# Altium integrated library Maxim Analog Filters.IntLib: 555 symbols (part 6 of 26)
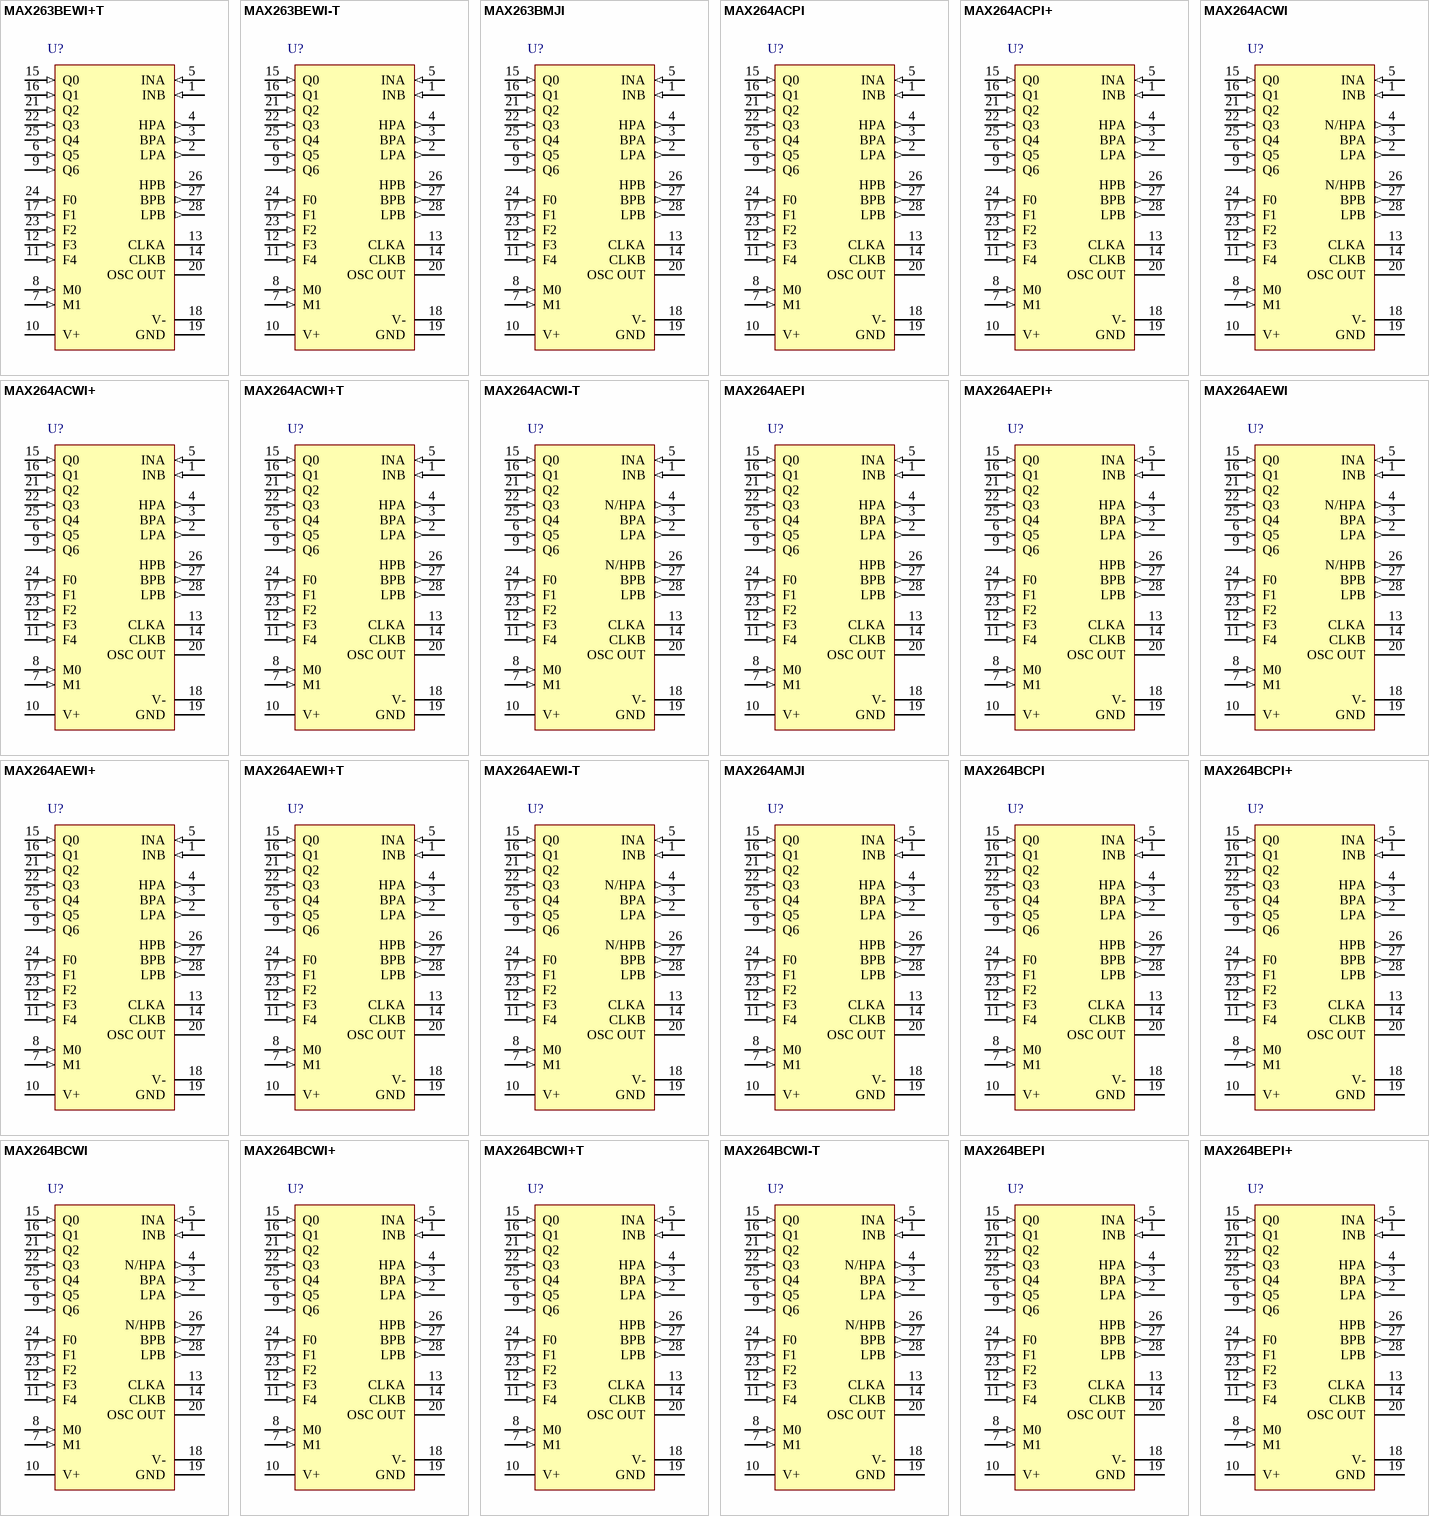
[diagram p22: symbols MAX263BEWI+T to MAX264BEPI+]

## MAX264BCWI+T
designator U?
Switched Capacitor Filter, Pin Strap Programmable, 0 to 70 degC, 28-Pin SOIC (W28+5), Pb-Free, Tape and Reel; Generic Part Number: MAX264; PartNumber: MAX264BCWI+T; Filter Sections: 2; Filter Type: Universal; DatasheetVersion: Rev. 4; PackageVersion: Rev. F, 10/2012; PackageReference: W28+5; PackageDescription: 28-Pin Small-Outline IC, Wide (0.3in) (W28+5), Body 17.9 x 7.5 mm, Pitch 1.27 mm; Supplier 1: Digi-Key; Supplier Part Number 1: MAX264BCWI+T-ND; Supplier 2: Mouser; Supplier Part Number 2: 700-MAX264BCWIT; Filter Characteristic: Programmable; Filter Class: Switched Cap; Order Per Filter Section: 2; Packing: Tape and Reel; Program Method: Pin Strap; RoHS: Pb-Free; Mounting Technology: Surface Mount; Code_JEDEC: MS013; ComponentLink1Description: Manufacturer URL; ComponentLink1URL: http://www.maximintegrated.com/; ComponentLink2Description: Datasheet; ComponentLink2URL: http://datasheets.maximintegrated.com/en/ds/MAX264; ComponentLink3Description: Package Specification; ComponentLink3URL: http://pdfserv.maximintegrated.com/package_dwgs/21-0042.PDF
footprint MAXM-W28+5_N (SOIC, 28-Leads, Body 17.9x7.5mm, Pitch 1.27mm, IPC Medium Density)
footprint MAXM-W28+5_L (SOIC, 28-Leads, Body 17.9x7.5mm, Pitch 1.27mm, IPC High Density)
footprint MAXM-W28+5_M (SOIC, 28-Leads, Body 17.9x7.5mm, Pitch 1.27mm, IPC Low Density)
pins: 1 INB (in) "Filter inputs", 2 LPA (out) "Lowpass outputs", 3 BPA (out) "Bandpass outputs", 4 HPA (out) "Highpass/Notch/Allpass outputs", 5 INA (in) "Filter inputs", 6 Q5 (in) "Q programming inputs", 7 M1 (in) "Mode select inputs", 8 M0 (in) "Mode select inputs", 9 Q6 (in) "Q programming inputs", 10 V+ (power) "Positive supply voltage", 11 F4 (in) "Clock/center frequency ratio (fclk/fo) programming inputs", 12 F3 (in) "Clock/center frequency ratio (fclk/fo) programming inputs", 13 CLKA "Input to the oscillator and clock input to section A.This clock is internally divided by 2.", 14 CLKB "Clock input to filter B. This clock is internally divided by 2.", 15 Q0 (in) "Q programming inputs", 16 Q1 (in) "Q programming inputs", 17 F1 (in) "Clock/center frequency ratio (fclk/fo) programming inputs", 18 V- (power) "Negative supply voltage", 19 GND (power) "Analog Ground.Connect to the system ground for dual supply operation or mid-supply for single supply operation. Gnd should be well bypassed in single supply applications.", 20 OSC OUT "Connects to crystal for self clocked operation", 21 Q2 (in) "Q programming inputs", 22 Q3 (in) "Q programming inputs", 23 F2 (in) "Clock/center frequency ratio (fclk/fo) programming inputs", 24 F0 (in) "Clock/center frequency ratio (fclk/fo) programming inputs", 25 Q4 (in) "Q programming inputs", 26 HPB (out) "Highpass/Notch/Allpass outputs", 27 BPB (out) "Bandpass outputs", 28 LPB (out) "Lowpass outputs"

## MAX264BCWI-T
designator U?
Switched Capacitor Filter, Pin Strap Programmable, 0 to 70 degC, 28-Pin SOIC (W28-5), Tape and Reel; Generic Part Number: MAX264; PartNumber: MAX264BCWI-T; Filter Sections: 2; Filter Type: Universal; DatasheetVersion: Rev. 4; PackageVersion: Rev. F, 10/2012; PackageReference: W28-5; PackageDescription: 28-Pin Small-Outline IC, Wide (0.3in) (W28-5), Body 17.9 x 7.5 mm, Pitch 1.27 mm; Supplier 1: Mouser; Supplier Part Number 1: N/A; Filter Characteristic: Programmable; Filter Class: Switched Cap; Order Per Filter Section: 2; Packing: Tape and Reel; Program Method: Pin Strap; Mounting Technology: Surface Mount; Code_JEDEC: MS013; ComponentLink1Description: Manufacturer URL; ComponentLink1URL: http://www.maximintegrated.com/; ComponentLink2Description: Datasheet; ComponentLink2URL: http://datasheets.maximintegrated.com/en/ds/MAX264; ComponentLink3Description: Package Specification; ComponentLink3URL: http://pdfserv.maximintegrated.com/package_dwgs/21-0042.PDF
footprint MAXM-W28-5_N (SOIC, 28-Leads, Body 17.9x7.5mm, Pitch 1.27mm, IPC Medium Density)
footprint MAXM-W28-5_L (SOIC, 28-Leads, Body 17.9x7.5mm, Pitch 1.27mm, IPC High Density)
footprint MAXM-W28-5_M (SOIC, 28-Leads, Body 17.9x7.5mm, Pitch 1.27mm, IPC Low Density)
pins: 1 INB (in) "Filter input", 2 LPA (out) "Lowpass output", 3 BPA (out) "Bandpass output", 4 N/HPA (out) "Highpass/Notch/Allpass output", 5 INA (in) "Filter input", 6 Q5 (in) "Q programming input", 7 M1 (in) "Mode select input", 8 M0 (in) "Mode select input", 9 Q6 (in) "Q programming input", 10 V+ (power) "Posotive supply voltage", 11 F4 (in) "Clock/center frequency ratio (fClk/f0) programming input", 12 F3 (in) "Clock/center frequency ratio (fClk/f0) programming input", 13 CLKA "Input to the oscillator and clock input to section A. This clock is internally divided by 2.", 14 CLKB "Clock input to filter B. This clock is internally divided by 2.", 15 Q0 (in) "Q programming input", 16 Q1 (in) "Q programming input", 17 F1 (in) "Clock/center frequency ratio (fClk/f0) programming input", 18 V- (power) "Negative supply voltage", 19 GND (power) "Analog Ground. Connect to the system ground for dual supply operation or mid-supply for single supply operation. GND should be well bypassed in single supply applications.", 20 OSC OUT "Connects to crystal for self clocked operation", 21 Q2 (in) "Q programming input", 22 Q3 (in) "Q programming input", 23 F2 (in) "Clock/center frequency ratio (fClk/f0) programming input", 24 F0 (in) "Clock/center frequency ratio (fClk/f0) programming input", 25 Q4 (in) "Q programming input", 26 N/HPB (out) "Highpass/Notch/Allpass output", 27 BPB (out) "Bandpass output", 28 LPB (out) "Lowpass output"

## MAX264BEPI
designator U?
Switched Capacitor Filter, Pin Strap Programmable, -40 to 85 degC, 28-Pin DIP (P28-5); Generic Part Number: MAX264; PartNumber: MAX264BEPI; Filter Sections: 2; Filter Type: Universal; DatasheetVersion: Rev. 4; PackageVersion: Rev. D, 04/2011; PackageReference: P28-5; PackageDescription: 28-Pin Plastic Dual-In-Line, Wide (0.6in) (P28-5), Body 36.83 x 13.975 mm, Pitch 2.54 mm; Supplier 1: Mouser; Supplier Part Number 1: N/A; Filter Characteristic: Programmable; Filter Class: Switched Cap; Order Per Filter Section: 2; Program Method: Pin Strap; Mounting Technology: Through Hole; Code_JEDEC: MS011; ComponentLink1Description: Manufacturer URL; ComponentLink1URL: http://www.maximintegrated.com/; ComponentLink2Description: Datasheet; ComponentLink2URL: http://datasheets.maximintegrated.com/en/ds/MAX264; ComponentLink3Description: Package Specification; ComponentLink3URL: http://pdfserv.maximintegrated.com/package_dwgs/21-0044.PDF
footprint MAXM-P28-5 (DIP, 28-Leads, Body 36.83x13.975mm, Pitch 2.54mm)
pins: 1 INB (in) "Filter inputs", 2 LPA (out) "Lowpass outputs", 3 BPA (out) "Bandpass outputs", 4 HPA (out) "Highpass/Notch/Allpass outputs", 5 INA (in) "Filter inputs", 6 Q5 (in) "Q programming inputs", 7 M1 (in) "Mode select inputs", 8 M0 (in) "Mode select inputs", 9 Q6 (in) "Q programming inputs", 10 V+ (power) "Positive supply voltage", 11 F4 (in) "Clock/center frequency ratio (fclk/fo) programming inputs", 12 F3 (in) "Clock/center frequency ratio (fclk/fo) programming inputs", 13 CLKA "Input to the oscillator and clock input to section A.This clock is internally divided by 2.", 14 CLKB "Clock input to filter B. This clock is internally divided by 2.", 15 Q0 (in) "Q programming inputs", 16 Q1 (in) "Q programming inputs", 17 F1 (in) "Clock/center frequency ratio (fclk/fo) programming inputs", 18 V- (power) "Negative supply voltage", 19 GND (power) "Analog Ground.Connect to the system ground for dual supply operation or mid-supply for single supply operation. Gnd should be well bypassed in single supply applications.", 20 OSC OUT "Connects to crystal for self clocked operation", 21 Q2 (in) "Q programming inputs", 22 Q3 (in) "Q programming inputs", 23 F2 (in) "Clock/center frequency ratio (fclk/fo) programming inputs", 24 F0 (in) "Clock/center frequency ratio (fclk/fo) programming inputs", 25 Q4 (in) "Q programming inputs", 26 HPB (out) "Highpass/Notch/Allpass outputs", 27 BPB (out) "Bandpass outputs", 28 LPB (out) "Lowpass outputs"

## MAX264BEPI+
designator U?
Switched Capacitor Filter, Pin Strap Programmable, -40 to 85 degC, 28-Pin DIP (P28+5), Pb-Free; Generic Part Number: MAX264; PartNumber: MAX264BEPI+; Filter Sections: 2; Filter Type: Universal; DatasheetVersion: Rev. 4; PackageVersion: Rev. D, 04/2011; PackageReference: P28+5; PackageDescription: 28-Pin Plastic Dual-In-Line, Wide (0.6in) (P28+5), Body 36.83 x 13.975 mm, Pitch 2.54 mm; Supplier 1: Digi-Key; Supplier Part Number 1: MAX264BEPI+-ND; Supplier 2: Mouser; Supplier Part Number 2: 700-MAX264BEPI; Filter Characteristic: Programmable; Filter Class: Switched Cap; Order Per Filter Section: 2; Program Method: Pin Strap; RoHS: Pb-Free; Mounting Technology: Through Hole; Code_JEDEC: MSO11; ComponentLink1Description: Manufacturer URL; ComponentLink1URL: http://www.maximintegrated.com/; ComponentLink2Description: Datasheet; ComponentLink2URL: http://datasheets.maximintegrated.com/en/ds/MAX264; ComponentLink3Description: Package Specification; ComponentLink3URL: http://pdfserv.maximintegrated.com/package_dwgs/21-0044.PDF
footprint MAXM-P28+5 (DIP, 28-Leads, Body 36.83x13.975mm, Pitch 2.54mm)
pins: 1 INB (in) "Filter inputs", 2 LPA (out) "Lowpass outputs", 3 BPA (out) "Bandpass outputs", 4 HPA (out) "Highpass/Notch/Allpass outputs", 5 INA (in) "Filter inputs", 6 Q5 (in) "Q programming inputs", 7 M1 (in) "Mode select inputs", 8 M0 (in) "Mode select inputs", 9 Q6 (in) "Q programming inputs", 10 V+ (power) "Positive supply voltage", 11 F4 (in) "Clock/center frequency ratio (fclk/fo) programming inputs", 12 F3 (in) "Clock/center frequency ratio (fclk/fo) programming inputs", 13 CLKA "Input to the oscillator and clock input to section A.This clock is internally divided by 2.", 14 CLKB "Clock input to filter B. This clock is internally divided by 2.", 15 Q0 (in) "Q programming inputs", 16 Q1 (in) "Q programming inputs", 17 F1 (in) "Clock/center frequency ratio (fclk/fo) programming inputs", 18 V- (power) "Negative supply voltage", 19 GND (power) "Analog Ground.Connect to the system ground for dual supply operation or mid-supply for single supply operation. Gnd should be well bypassed in single supply applications.", 20 OSC OUT "Connects to crystal for self clocked operation", 21 Q2 (in) "Q programming inputs", 22 Q3 (in) "Q programming inputs", 23 F2 (in) "Clock/center frequency ratio (fclk/fo) programming inputs", 24 F0 (in) "Clock/center frequency ratio (fclk/fo) programming inputs", 25 Q4 (in) "Q programming inputs", 26 HPB (out) "Highpass/Notch/Allpass outputs", 27 BPB (out) "Bandpass outputs", 28 LPB (out) "Lowpass outputs"

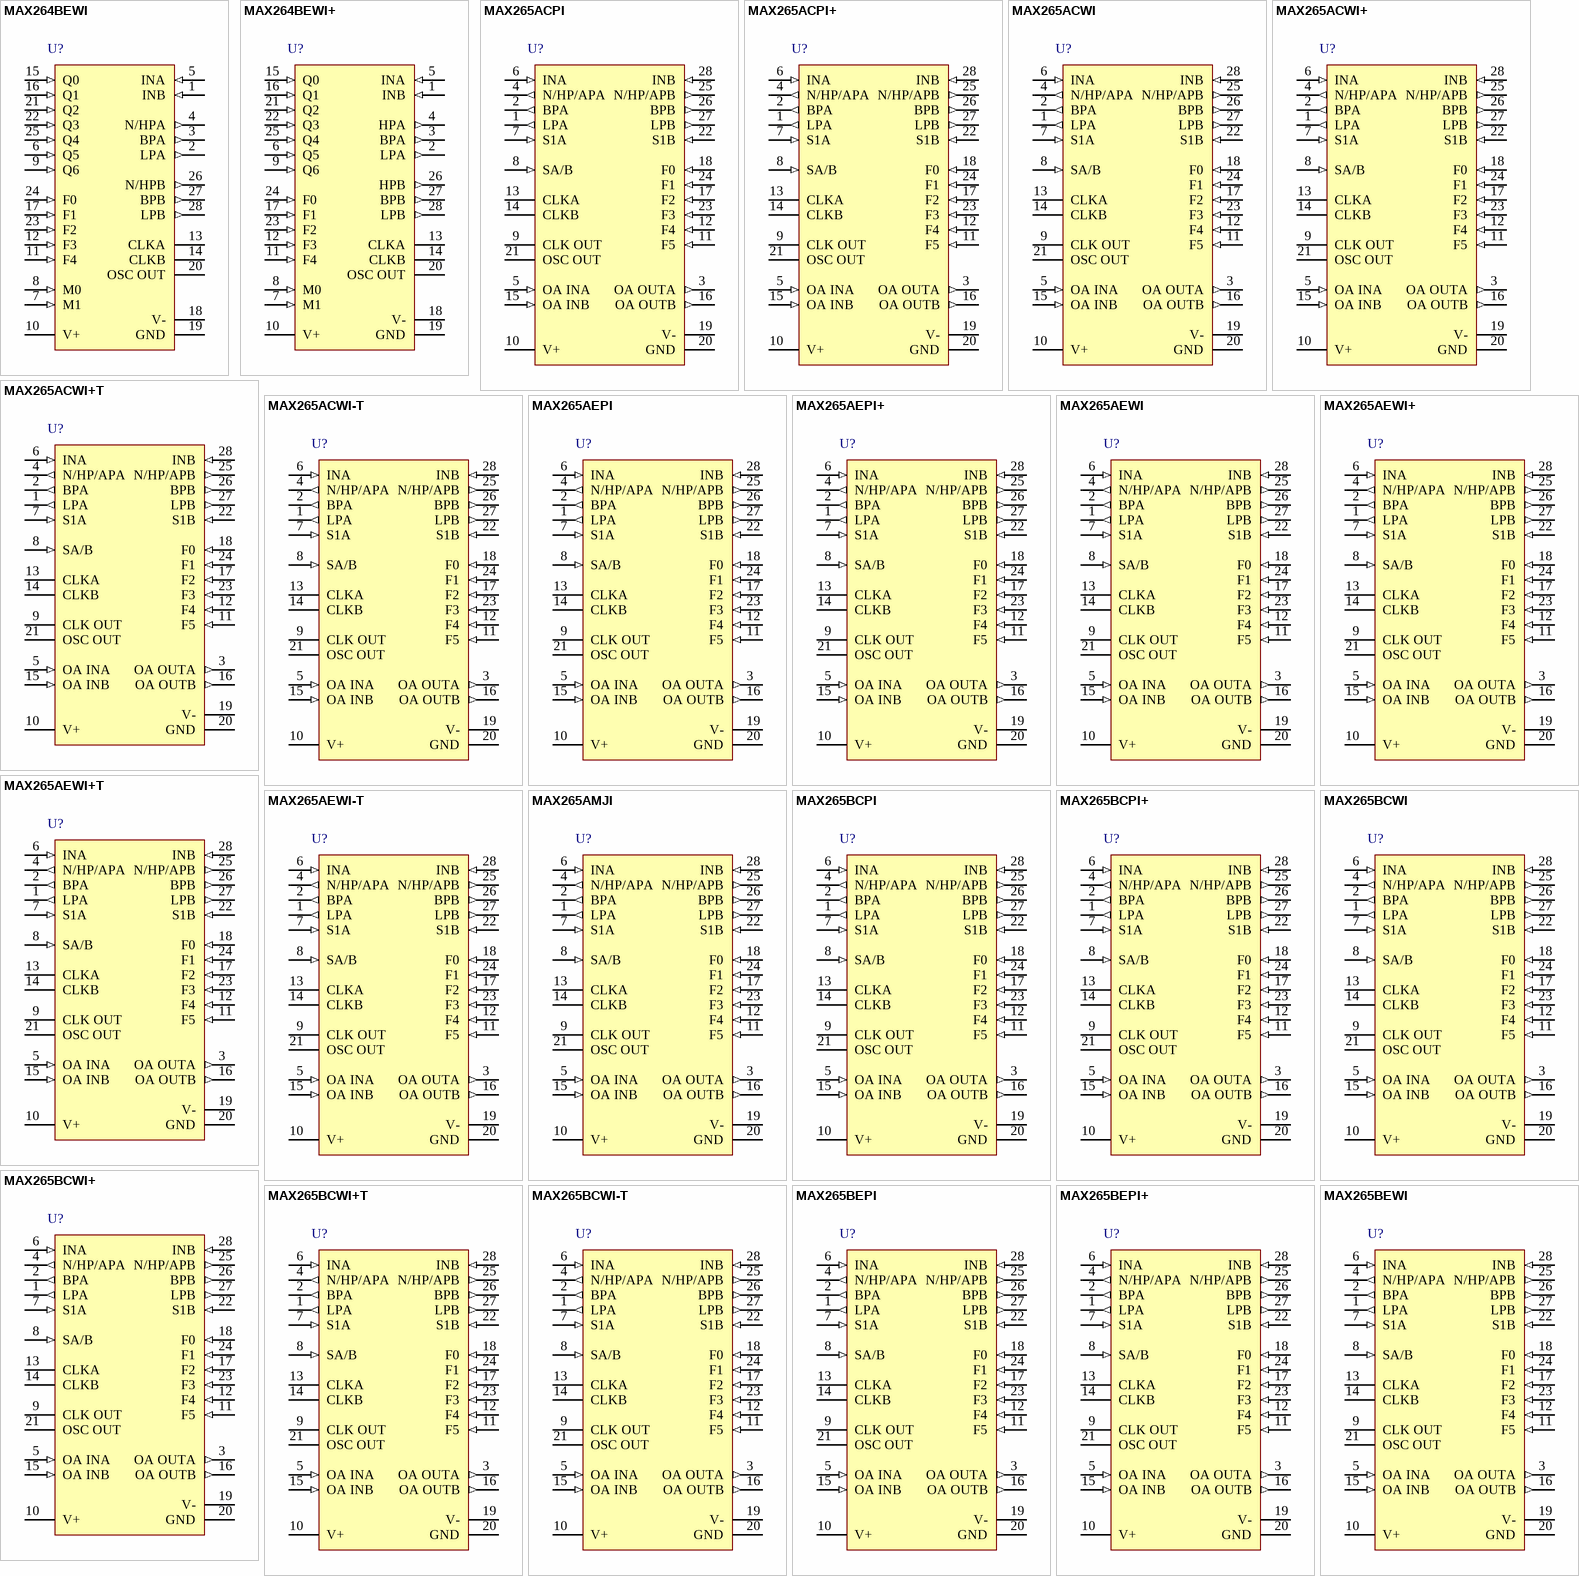
[diagram p4: symbols MAX264BEWI to MAX265BEWI]

## MAX264BEWI
designator U?
Switched Capacitor Filter, Pin Strap Programmable, -40 to 85 degC, 28-Pin SOIC (W28-5); Generic Part Number: MAX264; PartNumber: MAX264BEWI; Filter Sections: 2; Filter Type: Universal; DatasheetVersion: Rev. 4; PackageVersion: Rev. F, 10/2012; PackageReference: W28-5; PackageDescription: 28-Pin Small-Outline IC, Wide (0.3in) (W28-5), Body 17.9 x 7.5 mm, Pitch 1.27 mm; Supplier 1: Mouser; Supplier Part Number 1: N/A; Filter Characteristic: Programmable; Filter Class: Switched Cap; Order Per Filter Section: 2; Program Method: Pin Strap; Mounting Technology: Surface Mount; Code_JEDEC: MS013; ComponentLink1Description: Manufacturer URL; ComponentLink1URL: http://www.maximintegrated.com/; ComponentLink2Description: Datasheet; ComponentLink2URL: http://datasheets.maximintegrated.com/en/ds/MAX264; ComponentLink3Description: Package Specification; ComponentLink3URL: http://pdfserv.maximintegrated.com/package_dwgs/21-0042.PDF
footprint MAXM-W28-5_N (SOIC, 28-Leads, Body 17.9x7.5mm, Pitch 1.27mm, IPC Medium Density)
footprint MAXM-W28-5_L (SOIC, 28-Leads, Body 17.9x7.5mm, Pitch 1.27mm, IPC High Density)
footprint MAXM-W28-5_M (SOIC, 28-Leads, Body 17.9x7.5mm, Pitch 1.27mm, IPC Low Density)
pins: 1 INB (in) "Filter input", 2 LPA (out) "Lowpass output", 3 BPA (out) "Bandpass output", 4 N/HPA (out) "Highpass/Notch/Allpass output", 5 INA (in) "Filter input", 6 Q5 (in) "Q programming input", 7 M1 (in) "Mode select input", 8 M0 (in) "Mode select input", 9 Q6 (in) "Q programming input", 10 V+ (power) "Posotive supply voltage", 11 F4 (in) "Clock/center frequency ratio (fClk/f0) programming input", 12 F3 (in) "Clock/center frequency ratio (fClk/f0) programming input", 13 CLKA "Input to the oscillator and clock input to section A. This clock is internally divided by 2.", 14 CLKB "Clock input to filter B. This clock is internally divided by 2.", 15 Q0 (in) "Q programming input", 16 Q1 (in) "Q programming input", 17 F1 (in) "Clock/center frequency ratio (fClk/f0) programming input", 18 V- (power) "Negative supply voltage", 19 GND (power) "Analog Ground. Connect to the system ground for dual supply operation or mid-supply for single supply operation. GND should be well bypassed in single supply applications.", 20 OSC OUT "Connects to crystal for self clocked operation", 21 Q2 (in) "Q programming input", 22 Q3 (in) "Q programming input", 23 F2 (in) "Clock/center frequency ratio (fClk/f0) programming input", 24 F0 (in) "Clock/center frequency ratio (fClk/f0) programming input", 25 Q4 (in) "Q programming input", 26 N/HPB (out) "Highpass/Notch/Allpass output", 27 BPB (out) "Bandpass output", 28 LPB (out) "Lowpass output"

## MAX264BEWI+
designator U?
Switched Capacitor Filter, Pin Strap Programmable, -40 to 85 degC, 28-Pin SOIC (W28+5), Pb-Free; Generic Part Number: MAX264; PartNumber: MAX264BEWI+; Filter Sections: 2; Filter Type: Universal; DatasheetVersion: Rev. 4; PackageVersion: Rev. F, 10/2012; PackageReference: W28+5; PackageDescription: 28-Pin Small-Outline IC, Wide (0.3in) (W28+5), Body 17.9 x 7.5 mm, Pitch 1.27 mm; Supplier 1: Digi-Key; Supplier Part Number 1: MAX264BEWI+-ND; Supplier 2: Mouser; Supplier Part Number 2: 700-MAX264BEWI; Filter Characteristic: Programmable; Filter Class: Switched Cap; Order Per Filter Section: 2; Program Method: Pin Strap; RoHS: Pb-Free; Mounting Technology: Surface Mount; Code_JEDEC: MS013; ComponentLink1Description: Manufacturer URL; ComponentLink1URL: http://www.maximintegrated.com/; ComponentLink2Description: Datasheet; ComponentLink2URL: http://datasheets.maximintegrated.com/en/ds/MAX264; ComponentLink3Description: Package Specification; ComponentLink3URL: http://pdfserv.maximintegrated.com/package_dwgs/21-0042.PDF
footprint MAXM-W28+5_N (SOIC, 28-Leads, Body 17.9x7.5mm, Pitch 1.27mm, IPC Medium Density)
footprint MAXM-W28+5_L (SOIC, 28-Leads, Body 17.9x7.5mm, Pitch 1.27mm, IPC High Density)
footprint MAXM-W28+5_M (SOIC, 28-Leads, Body 17.9x7.5mm, Pitch 1.27mm, IPC Low Density)
pins: 1 INB (in) "Filter inputs", 2 LPA (out) "Lowpass outputs", 3 BPA (out) "Bandpass outputs", 4 HPA (out) "Highpass/Notch/Allpass outputs", 5 INA (in) "Filter inputs", 6 Q5 (in) "Q programming inputs", 7 M1 (in) "Mode select inputs", 8 M0 (in) "Mode select inputs", 9 Q6 (in) "Q programming inputs", 10 V+ (power) "Positive supply voltage", 11 F4 (in) "Clock/center frequency ratio (fclk/fo) programming inputs", 12 F3 (in) "Clock/center frequency ratio (fclk/fo) programming inputs", 13 CLKA "Input to the oscillator and clock input to section A.This clock is internally divided by 2.", 14 CLKB "Clock input to filter B. This clock is internally divided by 2.", 15 Q0 (in) "Q programming inputs", 16 Q1 (in) "Q programming inputs", 17 F1 (in) "Clock/center frequency ratio (fclk/fo) programming inputs", 18 V- (power) "Negative supply voltage", 19 GND (power) "Analog Ground.Connect to the system ground for dual supply operation or mid-supply for single supply operation. Gnd should be well bypassed in single supply applications.", 20 OSC OUT "Connects to crystal for self clocked operation", 21 Q2 (in) "Q programming inputs", 22 Q3 (in) "Q programming inputs", 23 F2 (in) "Clock/center frequency ratio (fclk/fo) programming inputs", 24 F0 (in) "Clock/center frequency ratio (fclk/fo) programming inputs", 25 Q4 (in) "Q programming inputs", 26 HPB (out) "Highpass/Notch/Allpass outputs", 27 BPB (out) "Bandpass outputs", 28 LPB (out) "Lowpass outputs"

## MAX265ACPI
designator U?
Switched Capacitor Filter, Pin Strap, Resistor Programmable, 0 to 70 degC, 28-Pin DIP (P28-5); Generic Part Number: MAX265; PartNumber: MAX265ACPI; Filter Sections: 2; Filter Type: Universal; DatasheetVersion: Rev. 0; PackageVersion: Rev. D, 04/2011; PackageReference: P28-5; PackageDescription: 28-Pin Plastic Dual-In-Line, Wide (0.6in) (P28-5), Body 36.83 x 13.975 mm, Pitch 2.54 mm; Supplier 1: Mouser; Supplier Part Number 1: N/A; Filter Characteristic: Programmable; Filter Class: Switched Cap; Order Per Filter Section: 2; Program Method: Pin Strap, Resistor; Mounting Technology: Through Hole; Code_JEDEC: MS011; ComponentLink1Description: Manufacturer URL; ComponentLink1URL: http://www.maximintegrated.com/; ComponentLink2Description: Datasheet; ComponentLink2URL: http://datasheets.maximintegrated.com/en/ds/MAX265-MAX266.pdf; ComponentLink3Description: Package Specification; ComponentLink3URL: http://pdfserv.maximintegrated.com/package_dwgs/21-0044.PDF
footprint MAXM-P28-5 (DIP, 28-Leads, Body 36.83x13.975mm, Pitch 2.54mm)
pins: 1 LPA (out) "Lowpass outputs", 2 BPA (out) "Bandpass outputs", 3 OA OUTA (out) "Output of op amps A", 4 N/HP/APA (out), 5 OA INA (in) "Inverting input of op amps A", 6 INA (in) "Filter input", 7 S1A (in) "Auxiliary input to summing node in A filter. It receives feedback signals in various filter modes.", 8 SA/B (in) "When SA/B is high, one filter summing node is tied to the LP output. When SA/B is low, the summing node is grounded. See Mode diagrams (Figures 5-20) for SA/B connections.", 9 CLK OUT "Clock Output for crystal and R-C oscillator operation.", 10 V+ (power) "Positive supply voltage", 11 F5 (in) "Programming input for fCLK/f0 ratio", 12 F4 (in) "Programming input for fCLK/f0 ratio", 13 CLKA "Input to the oscillator and clock input to section A. This clock is internally divided by 2.", 14 CLKB "Clock input to filter B. This clock is internally divided by 2.", 15 OA INB (in) "Inverting input of op amps B", 16 OA OUTB (out) "Output of op amps B", 17 F2 (in) "Programming input for fCLK/f0 ratio", 18 F0 (in) "Programming input for fCLK/f0 ratio", 19 V- (power) "Negative supply voltage", 20 GND (power) "Analog Ground. Connect to the system ground for +/- supplies or to mid-supply for single supply operation. GND should be well bypassed in single supply applications.", 21 OSC OUT "Connects to crystal or R-C for self-clocked operation.", 22 S1B (in) "Auxiliary input to summing node in B filter. It receives feedback signals in various filter modes.", 23 F3 (in) "Programming input for fCLK/f0 ratio", 24 F1 (in) "Programming input for fCLK/f0 ratio", 25 N/HP/APB (out), 26 BPB (out) "Bandpass outputs", 27 LPB (out) "Lowpass outputs", 28 INB (in) "Filter input"

## MAX265ACPI+
designator U?
Switched Capacitor Filter, Pin Strap, Resistor Programmable, 0 to 70 degC, 28-Pin DIP (P28+5), Pb-Free; Generic Part Number: MAX265; PartNumber: MAX265ACPI+; Filter Sections: 2; Filter Type: Universal; DatasheetVersion: Rev. 0; PackageVersion: Rev. D, 04/2011; PackageReference: P28+5; PackageDescription: 28-Pin Plastic Dual-In-Line, Wide (0.6in) (P28+5), Body 36.83 x 13.975 mm, Pitch 2.54 mm; Supplier 1: Mouser; Supplier Part Number 1: N/A; Filter Characteristic: Programmable; Filter Class: Switched Cap; Order Per Filter Section: 2; Program Method: Pin Strap, Resistor; RoHS: Pb-Free; Mounting Technology: Through Hole; Code_JEDEC: MSO11; ComponentLink1Description: Manufacturer URL; ComponentLink1URL: http://www.maximintegrated.com/; ComponentLink2Description: Datasheet; ComponentLink2URL: http://datasheets.maximintegrated.com/en/ds/MAX265-MAX266.pdf; ComponentLink3Description: Package Specification; ComponentLink3URL: http://pdfserv.maximintegrated.com/package_dwgs/21-0044.PDF
footprint MAXM-P28+5 (DIP, 28-Leads, Body 36.83x13.975mm, Pitch 2.54mm)
pins: 1 LPA (out) "Lowpass outputs", 2 BPA (out) "Bandpass outputs", 3 OA OUTA (out) "Output of op amps A", 4 N/HP/APA (out), 5 OA INA (in) "Inverting input of op amps A", 6 INA (in) "Filter input", 7 S1A (in) "Auxiliary input to summing node in A filter. It receives feedback signals in various filter modes.", 8 SA/B (in) "When SA/B is high, one filter summing node is tied to the LP output. When SA/B is low, the summing node is grounded. See Mode diagrams (Figures 5-20) for SA/B connections.", 9 CLK OUT "Clock Output for crystal and R-C oscillator operation.", 10 V+ (power) "Positive supply voltage", 11 F5 (in) "Programming input for fCLK/f0 ratio", 12 F4 (in) "Programming input for fCLK/f0 ratio", 13 CLKA "Input to the oscillator and clock input to section A. This clock is internally divided by 2.", 14 CLKB "Clock input to filter B. This clock is internally divided by 2.", 15 OA INB (in) "Inverting input of op amps B", 16 OA OUTB (out) "Output of op amps B", 17 F2 (in) "Programming input for fCLK/f0 ratio", 18 F0 (in) "Programming input for fCLK/f0 ratio", 19 V- (power) "Negative supply voltage", 20 GND (power) "Analog Ground. Connect to the system ground for +/- supplies or to mid-supply for single supply operation. GND should be well bypassed in single supply applications.", 21 OSC OUT "Connects to crystal or R-C for self-clocked operation.", 22 S1B (in) "Auxiliary input to summing node in B filter. It receives feedback signals in various filter modes.", 23 F3 (in) "Programming input for fCLK/f0 ratio", 24 F1 (in) "Programming input for fCLK/f0 ratio", 25 N/HP/APB (out), 26 BPB (out) "Bandpass outputs", 27 LPB (out) "Lowpass outputs", 28 INB (in) "Filter input"

## MAX265ACWI
designator U?
Switched Capacitor Filter, Pin Strap, Resistor Programmable, 0 to 70 degC, 28-Pin SOIC (W28-5); Generic Part Number: MAX265; PartNumber: MAX265ACWI; Filter Sections: 2; Filter Type: Universal; DatasheetVersion: Rev. 0; PackageVersion: Rev. F, 10/2012; PackageReference: W28-5; PackageDescription: 28-Pin Small-Outline IC, Wide (0.3in) (W28-5), Body 17.9 x 7.5 mm, Pitch 1.27 mm; Supplier 1: Mouser; Supplier Part Number 1: N/A; Filter Characteristic: Programmable; Filter Class: Switched Cap; Order Per Filter Section: 2; Program Method: Pin Strap, Resistor; Mounting Technology: Surface Mount; Code_JEDEC: MS013; ComponentLink1Description: Manufacturer URL; ComponentLink1URL: http://www.maximintegrated.com/; ComponentLink2Description: Datasheet; ComponentLink2URL: http://datasheets.maximintegrated.com/en/ds/MAX265-MAX266.pdf; ComponentLink3Description: Package Specification; ComponentLink3URL: http://pdfserv.maximintegrated.com/package_dwgs/21-0042.PDF
footprint MAXM-W28-5_N (SOIC, 28-Leads, Body 17.9x7.5mm, Pitch 1.27mm, IPC Medium Density)
footprint MAXM-W28-5_L (SOIC, 28-Leads, Body 17.9x7.5mm, Pitch 1.27mm, IPC High Density)
footprint MAXM-W28-5_M (SOIC, 28-Leads, Body 17.9x7.5mm, Pitch 1.27mm, IPC Low Density)
pins: 1 LPA (out) "Lowpass outputs", 2 BPA (out) "Bandpass outputs", 3 OA OUTA (out) "Output of op amps A", 4 N/HP/APA (out), 5 OA INA (in) "Inverting input of op amps A", 6 INA (in) "Filter input", 7 S1A (in) "Auxiliary input to summing node in A filter. It receives feedback signals in various filter modes.", 8 SA/B (in) "When SA/B is high, one filter summing node is tied to the LP output. When SA/B is low, the summing node is grounded. See Mode diagrams (Figures 5-20) for SA/B connections.", 9 CLK OUT "Clock Output for crystal and R-C oscillator operation.", 10 V+ (power) "Positive supply voltage", 11 F5 (in) "Programming input for fCLK/f0 ratio", 12 F4 (in) "Programming input for fCLK/f0 ratio", 13 CLKA "Input to the oscillator and clock input to section A. This clock is internally divided by 2.", 14 CLKB "Clock input to filter B. This clock is internally divided by 2.", 15 OA INB (in) "Inverting input of op amps B", 16 OA OUTB (out) "Output of op amps B", 17 F2 (in) "Programming input for fCLK/f0 ratio", 18 F0 (in) "Programming input for fCLK/f0 ratio", 19 V- (power) "Negative supply voltage", 20 GND (power) "Analog Ground. Connect to the system ground for +/- supplies or to mid-supply for single supply operation. GND should be well bypassed in single supply applications.", 21 OSC OUT "Connects to crystal or R-C for self-clocked operation.", 22 S1B (in) "Auxiliary input to summing node in B filter. It receives feedback signals in various filter modes.", 23 F3 (in) "Programming input for fCLK/f0 ratio", 24 F1 (in) "Programming input for fCLK/f0 ratio", 25 N/HP/APB (out), 26 BPB (out) "Bandpass outputs", 27 LPB (out) "Lowpass outputs", 28 INB (in) "Filter input"

## MAX265ACWI+
designator U?
Switched Capacitor Filter, Pin Strap, Resistor Programmable, 0 to 70 degC, 28-Pin SOIC (W28+5), Pb-Free; Generic Part Number: MAX265; PartNumber: MAX265ACWI+; Filter Sections: 2; Filter Type: Universal; DatasheetVersion: Rev. 0; PackageVersion: Rev. F, 10/2012; PackageReference: W28+5; PackageDescription: 28-Pin Small-Outline IC, Wide (0.3in) (W28+5), Body 17.9 x 7.5 mm, Pitch 1.27 mm; Supplier 1: Mouser; Supplier Part Number 1: N/A; Filter Characteristic: Programmable; Filter Class: Switched Cap; Order Per Filter Section: 2; Program Method: Pin Strap, Resistor; RoHS: Pb-Free; Mounting Technology: Surface Mount; Code_JEDEC: MS013; ComponentLink1Description: Manufacturer URL; ComponentLink1URL: http://www.maximintegrated.com/; ComponentLink2Description: Datasheet; ComponentLink2URL: http://datasheets.maximintegrated.com/en/ds/MAX265-MAX266.pdf; ComponentLink3Description: Package Specification; ComponentLink3URL: http://pdfserv.maximintegrated.com/package_dwgs/21-0042.PDF
footprint MAXM-W28+5_N (SOIC, 28-Leads, Body 17.9x7.5mm, Pitch 1.27mm, IPC Medium Density)
footprint MAXM-W28+5_L (SOIC, 28-Leads, Body 17.9x7.5mm, Pitch 1.27mm, IPC High Density)
footprint MAXM-W28+5_M (SOIC, 28-Leads, Body 17.9x7.5mm, Pitch 1.27mm, IPC Low Density)
pins: 1 LPA (out) "Lowpass outputs", 2 BPA (out) "Bandpass outputs", 3 OA OUTA (out) "Output of op amps A", 4 N/HP/APA (out), 5 OA INA (in) "Inverting input of op amps A", 6 INA (in) "Filter input", 7 S1A (in) "Auxiliary input to summing node in A filter. It receives feedback signals in various filter modes.", 8 SA/B (in) "When SA/B is high, one filter summing node is tied to the LP output. When SA/B is low, the summing node is grounded. See Mode diagrams (Figures 5-20) for SA/B connections.", 9 CLK OUT "Clock Output for crystal and R-C oscillator operation.", 10 V+ (power) "Positive supply voltage", 11 F5 (in) "Programming input for fCLK/f0 ratio", 12 F4 (in) "Programming input for fCLK/f0 ratio", 13 CLKA "Input to the oscillator and clock input to section A. This clock is internally divided by 2.", 14 CLKB "Clock input to filter B. This clock is internally divided by 2.", 15 OA INB (in) "Inverting input of op amps B", 16 OA OUTB (out) "Output of op amps B", 17 F2 (in) "Programming input for fCLK/f0 ratio", 18 F0 (in) "Programming input for fCLK/f0 ratio", 19 V- (power) "Negative supply voltage", 20 GND (power) "Analog Ground. Connect to the system ground for +/- supplies or to mid-supply for single supply operation. GND should be well bypassed in single supply applications.", 21 OSC OUT "Connects to crystal or R-C for self-clocked operation.", 22 S1B (in) "Auxiliary input to summing node in B filter. It receives feedback signals in various filter modes.", 23 F3 (in) "Programming input for fCLK/f0 ratio", 24 F1 (in) "Programming input for fCLK/f0 ratio", 25 N/HP/APB (out), 26 BPB (out) "Bandpass outputs", 27 LPB (out) "Lowpass outputs", 28 INB (in) "Filter input"

## MAX265ACWI+T
designator U?
Switched Capacitor Filter, Pin Strap, Resistor Programmable, 0 to 70 degC, 28-Pin SOIC (W28+5), Pb-Free, Tape and Reel; Generic Part Number: MAX265; PartNumber: MAX265ACWI+T; Filter Sections: 2; Filter Type: Universal; DatasheetVersion: Rev. 0; PackageVersion: Rev. F, 10/2012; PackageReference: W28+5; PackageDescription: 28-Pin Small-Outline IC, Wide (0.3in) (W28+5), Body 17.9 x 7.5 mm, Pitch 1.27 mm; Supplier 1: Mouser; Supplier Part Number 1: N/A; Filter Characteristic: Programmable; Filter Class: Switched Cap; Order Per Filter Section: 2; Packing: Tape and Reel; Program Method: Pin Strap, Resistor; RoHS: Pb-Free; Mounting Technology: Surface Mount; Code_JEDEC: MS013; ComponentLink1Description: Manufacturer URL; ComponentLink1URL: http://www.maximintegrated.com/; ComponentLink2Description: Datasheet; ComponentLink2URL: http://datasheets.maximintegrated.com/en/ds/MAX265-MAX266.pdf; ComponentLink3Description: Package Specification; ComponentLink3URL: http://pdfserv.maximintegrated.com/package_dwgs/21-0042.PDF
footprint MAXM-W28+5_N (SOIC, 28-Leads, Body 17.9x7.5mm, Pitch 1.27mm, IPC Medium Density)
footprint MAXM-W28+5_L (SOIC, 28-Leads, Body 17.9x7.5mm, Pitch 1.27mm, IPC High Density)
footprint MAXM-W28+5_M (SOIC, 28-Leads, Body 17.9x7.5mm, Pitch 1.27mm, IPC Low Density)
pins: 1 LPA (out) "Lowpass outputs", 2 BPA (out) "Bandpass outputs", 3 OA OUTA (out) "Output of op amps A", 4 N/HP/APA (out), 5 OA INA (in) "Inverting input of op amps A", 6 INA (in) "Filter input", 7 S1A (in) "Auxiliary input to summing node in A filter. It receives feedback signals in various filter modes.", 8 SA/B (in) "When SA/B is high, one filter summing node is tied to the LP output. When SA/B is low, the summing node is grounded. See Mode diagrams (Figures 5-20) for SA/B connections.", 9 CLK OUT "Clock Output for crystal and R-C oscillator operation.", 10 V+ (power) "Positive supply voltage", 11 F5 (in) "Programming input for fCLK/f0 ratio", 12 F4 (in) "Programming input for fCLK/f0 ratio", 13 CLKA "Input to the oscillator and clock input to section A. This clock is internally divided by 2.", 14 CLKB "Clock input to filter B. This clock is internally divided by 2.", 15 OA INB (in) "Inverting input of op amps B", 16 OA OUTB (out) "Output of op amps B", 17 F2 (in) "Programming input for fCLK/f0 ratio", 18 F0 (in) "Programming input for fCLK/f0 ratio", 19 V- (power) "Negative supply voltage", 20 GND (power) "Analog Ground. Connect to the system ground for +/- supplies or to mid-supply for single supply operation. GND should be well bypassed in single supply applications.", 21 OSC OUT "Connects to crystal or R-C for self-clocked operation.", 22 S1B (in) "Auxiliary input to summing node in B filter. It receives feedback signals in various filter modes.", 23 F3 (in) "Programming input for fCLK/f0 ratio", 24 F1 (in) "Programming input for fCLK/f0 ratio", 25 N/HP/APB (out), 26 BPB (out) "Bandpass outputs", 27 LPB (out) "Lowpass outputs", 28 INB (in) "Filter input"

## MAX265ACWI-T
designator U?
Switched Capacitor Filter, Pin Strap, Resistor Programmable, 0 to 70 degC, 28-Pin SOIC (W28-5), Tape and Reel; Generic Part Number: MAX265; PartNumber: MAX265ACWI-T; Filter Sections: 2; Filter Type: Universal; DatasheetVersion: Rev. 0; PackageVersion: Rev. F, 10/2012; PackageReference: W28-5; PackageDescription: 28-Pin Small-Outline IC, Wide (0.3in) (W28-5), Body 17.9 x 7.5 mm, Pitch 1.27 mm; Supplier 1: Mouser; Supplier Part Number 1: N/A; Filter Characteristic: Programmable; Filter Class: Switched Cap; Order Per Filter Section: 2; Packing: Tape and Reel; Program Method: Pin Strap, Resistor; Mounting Technology: Surface Mount; Code_JEDEC: MS013; ComponentLink1Description: Manufacturer URL; ComponentLink1URL: http://www.maximintegrated.com/; ComponentLink2Description: Datasheet; ComponentLink2URL: http://datasheets.maximintegrated.com/en/ds/MAX265-MAX266.pdf; ComponentLink3Description: Package Specification; ComponentLink3URL: http://pdfserv.maximintegrated.com/package_dwgs/21-0042.PDF
footprint MAXM-W28-5_N (SOIC, 28-Leads, Body 17.9x7.5mm, Pitch 1.27mm, IPC Medium Density)
footprint MAXM-W28-5_L (SOIC, 28-Leads, Body 17.9x7.5mm, Pitch 1.27mm, IPC High Density)
footprint MAXM-W28-5_M (SOIC, 28-Leads, Body 17.9x7.5mm, Pitch 1.27mm, IPC Low Density)
pins: 1 LPA (out) "Lowpass outputs", 2 BPA (out) "Bandpass outputs", 3 OA OUTA (out) "Output of op amps A", 4 N/HP/APA (out), 5 OA INA (in) "Inverting input of op amps A", 6 INA (in) "Filter input", 7 S1A (in) "Auxiliary input to summing node in A filter. It receives feedback signals in various filter modes.", 8 SA/B (in) "When SA/B is high, one filter summing node is tied to the LP output. When SA/B is low, the summing node is grounded. See Mode diagrams (Figures 5-20) for SA/B connections.", 9 CLK OUT "Clock Output for crystal and R-C oscillator operation.", 10 V+ (power) "Positive supply voltage", 11 F5 (in) "Programming input for fCLK/f0 ratio", 12 F4 (in) "Programming input for fCLK/f0 ratio", 13 CLKA "Input to the oscillator and clock input to section A. This clock is internally divided by 2.", 14 CLKB "Clock input to filter B. This clock is internally divided by 2.", 15 OA INB (in) "Inverting input of op amps B", 16 OA OUTB (out) "Output of op amps B", 17 F2 (in) "Programming input for fCLK/f0 ratio", 18 F0 (in) "Programming input for fCLK/f0 ratio", 19 V- (power) "Negative supply voltage", 20 GND (power) "Analog Ground. Connect to the system ground for +/- supplies or to mid-supply for single supply operation. GND should be well bypassed in single supply applications.", 21 OSC OUT "Connects to crystal or R-C for self-clocked operation.", 22 S1B (in) "Auxiliary input to summing node in B filter. It receives feedback signals in various filter modes.", 23 F3 (in) "Programming input for fCLK/f0 ratio", 24 F1 (in) "Programming input for fCLK/f0 ratio", 25 N/HP/APB (out), 26 BPB (out) "Bandpass outputs", 27 LPB (out) "Lowpass outputs", 28 INB (in) "Filter input"

## MAX265AEPI
designator U?
Switched Capacitor Filter, Pin Strap, Resistor Programmable, -40 to 85 degC, 28-Pin DIP (P28-5); Generic Part Number: MAX265; PartNumber: MAX265AEPI; Filter Sections: 2; Filter Type: Universal; DatasheetVersion: Rev. 0; PackageVersion: Rev. D, 04/2011; PackageReference: P28-5; PackageDescription: 28-Pin Plastic Dual-In-Line, Wide (0.6in) (P28-5), Body 36.83 x 13.975 mm, Pitch 2.54 mm; Supplier 1: Mouser; Supplier Part Number 1: N/A; Filter Characteristic: Programmable; Filter Class: Switched Cap; Order Per Filter Section: 2; Program Method: Pin Strap, Resistor; Mounting Technology: Through Hole; Code_JEDEC: MS011; ComponentLink1Description: Manufacturer URL; ComponentLink1URL: http://www.maximintegrated.com/; ComponentLink2Description: Datasheet; ComponentLink2URL: http://datasheets.maximintegrated.com/en/ds/MAX265-MAX266.pdf; ComponentLink3Description: Package Specification; ComponentLink3URL: http://pdfserv.maximintegrated.com/package_dwgs/21-0044.PDF
footprint MAXM-P28-5 (DIP, 28-Leads, Body 36.83x13.975mm, Pitch 2.54mm)
pins: 1 LPA (out) "Lowpass outputs", 2 BPA (out) "Bandpass outputs", 3 OA OUTA (out) "Output of op amps A", 4 N/HP/APA (out), 5 OA INA (in) "Inverting input of op amps A", 6 INA (in) "Filter input", 7 S1A (in) "Auxiliary input to summing node in A filter. It receives feedback signals in various filter modes.", 8 SA/B (in) "When SA/B is high, one filter summing node is tied to the LP output. When SA/B is low, the summing node is grounded. See Mode diagrams (Figures 5-20) for SA/B connections.", 9 CLK OUT "Clock Output for crystal and R-C oscillator operation.", 10 V+ (power) "Positive supply voltage", 11 F5 (in) "Programming input for fCLK/f0 ratio", 12 F4 (in) "Programming input for fCLK/f0 ratio", 13 CLKA "Input to the oscillator and clock input to section A. This clock is internally divided by 2.", 14 CLKB "Clock input to filter B. This clock is internally divided by 2.", 15 OA INB (in) "Inverting input of op amps B", 16 OA OUTB (out) "Output of op amps B", 17 F2 (in) "Programming input for fCLK/f0 ratio", 18 F0 (in) "Programming input for fCLK/f0 ratio", 19 V- (power) "Negative supply voltage", 20 GND (power) "Analog Ground. Connect to the system ground for +/- supplies or to mid-supply for single supply operation. GND should be well bypassed in single supply applications.", 21 OSC OUT "Connects to crystal or R-C for self-clocked operation.", 22 S1B (in) "Auxiliary input to summing node in B filter. It receives feedback signals in various filter modes.", 23 F3 (in) "Programming input for fCLK/f0 ratio", 24 F1 (in) "Programming input for fCLK/f0 ratio", 25 N/HP/APB (out), 26 BPB (out) "Bandpass outputs", 27 LPB (out) "Lowpass outputs", 28 INB (in) "Filter input"

## MAX265AEPI+
designator U?
Switched Capacitor Filter, Pin Strap, Resistor Programmable, -40 to 85 degC, 28-Pin DIP (P28+5), Pb-Free; Generic Part Number: MAX265; PartNumber: MAX265AEPI+; Filter Sections: 2; Filter Type: Universal; DatasheetVersion: Rev. 0; PackageVersion: Rev. D, 04/2011; PackageReference: P28+5; PackageDescription: 28-Pin Plastic Dual-In-Line, Wide (0.6in) (P28+5), Body 36.83 x 13.975 mm, Pitch 2.54 mm; Supplier 1: Mouser; Supplier Part Number 1: N/A; Filter Characteristic: Programmable; Filter Class: Switched Cap; Order Per Filter Section: 2; Program Method: Pin Strap, Resistor; RoHS: Pb-Free; Mounting Technology: Through Hole; Code_JEDEC: MSO11; ComponentLink1Description: Manufacturer URL; ComponentLink1URL: http://www.maximintegrated.com/; ComponentLink2Description: Datasheet; ComponentLink2URL: http://datasheets.maximintegrated.com/en/ds/MAX265-MAX266.pdf; ComponentLink3Description: Package Specification; ComponentLink3URL: http://pdfserv.maximintegrated.com/package_dwgs/21-0044.PDF
footprint MAXM-P28+5 (DIP, 28-Leads, Body 36.83x13.975mm, Pitch 2.54mm)
pins: 1 LPA (out) "Lowpass outputs", 2 BPA (out) "Bandpass outputs", 3 OA OUTA (out) "Output of op amps A", 4 N/HP/APA (out), 5 OA INA (in) "Inverting input of op amps A", 6 INA (in) "Filter input", 7 S1A (in) "Auxiliary input to summing node in A filter. It receives feedback signals in various filter modes.", 8 SA/B (in) "When SA/B is high, one filter summing node is tied to the LP output. When SA/B is low, the summing node is grounded. See Mode diagrams (Figures 5-20) for SA/B connections.", 9 CLK OUT "Clock Output for crystal and R-C oscillator operation.", 10 V+ (power) "Positive supply voltage", 11 F5 (in) "Programming input for fCLK/f0 ratio", 12 F4 (in) "Programming input for fCLK/f0 ratio", 13 CLKA "Input to the oscillator and clock input to section A. This clock is internally divided by 2.", 14 CLKB "Clock input to filter B. This clock is internally divided by 2.", 15 OA INB (in) "Inverting input of op amps B", 16 OA OUTB (out) "Output of op amps B", 17 F2 (in) "Programming input for fCLK/f0 ratio", 18 F0 (in) "Programming input for fCLK/f0 ratio", 19 V- (power) "Negative supply voltage", 20 GND (power) "Analog Ground. Connect to the system ground for +/- supplies or to mid-supply for single supply operation. GND should be well bypassed in single supply applications.", 21 OSC OUT "Connects to crystal or R-C for self-clocked operation.", 22 S1B (in) "Auxiliary input to summing node in B filter. It receives feedback signals in various filter modes.", 23 F3 (in) "Programming input for fCLK/f0 ratio", 24 F1 (in) "Programming input for fCLK/f0 ratio", 25 N/HP/APB (out), 26 BPB (out) "Bandpass outputs", 27 LPB (out) "Lowpass outputs", 28 INB (in) "Filter input"

## MAX265AEWI
designator U?
Switched Capacitor Filter, Pin Strap, Resistor Programmable, -40 to 85 degC, 28-Pin SOIC (W28-5); Generic Part Number: MAX265; PartNumber: MAX265AEWI; Filter Sections: 2; Filter Type: Universal; DatasheetVersion: Rev. 0; PackageVersion: Rev. F, 10/2012; PackageReference: W28-5; PackageDescription: 28-Pin Small-Outline IC, Wide (0.3in) (W28-5), Body 17.9 x 7.5 mm, Pitch 1.27 mm; Supplier 1: Mouser; Supplier Part Number 1: N/A; Filter Characteristic: Programmable; Filter Class: Switched Cap; Order Per Filter Section: 2; Program Method: Pin Strap, Resistor; Mounting Technology: Surface Mount; Code_JEDEC: MS013; ComponentLink1Description: Manufacturer URL; ComponentLink1URL: http://www.maximintegrated.com/; ComponentLink2Description: Datasheet; ComponentLink2URL: http://datasheets.maximintegrated.com/en/ds/MAX265-MAX266.pdf; ComponentLink3Description: Package Specification; ComponentLink3URL: http://pdfserv.maximintegrated.com/package_dwgs/21-0042.PDF
footprint MAXM-W28-5_N (SOIC, 28-Leads, Body 17.9x7.5mm, Pitch 1.27mm, IPC Medium Density)
footprint MAXM-W28-5_L (SOIC, 28-Leads, Body 17.9x7.5mm, Pitch 1.27mm, IPC High Density)
footprint MAXM-W28-5_M (SOIC, 28-Leads, Body 17.9x7.5mm, Pitch 1.27mm, IPC Low Density)
pins: 1 LPA (out) "Lowpass outputs", 2 BPA (out) "Bandpass outputs", 3 OA OUTA (out) "Output of op amps A", 4 N/HP/APA (out), 5 OA INA (in) "Inverting input of op amps A", 6 INA (in) "Filter input", 7 S1A (in) "Auxiliary input to summing node in A filter. It receives feedback signals in various filter modes.", 8 SA/B (in) "When SA/B is high, one filter summing node is tied to the LP output. When SA/B is low, the summing node is grounded. See Mode diagrams (Figures 5-20) for SA/B connections.", 9 CLK OUT "Clock Output for crystal and R-C oscillator operation.", 10 V+ (power) "Positive supply voltage", 11 F5 (in) "Programming input for fCLK/f0 ratio", 12 F4 (in) "Programming input for fCLK/f0 ratio", 13 CLKA "Input to the oscillator and clock input to section A. This clock is internally divided by 2.", 14 CLKB "Clock input to filter B. This clock is internally divided by 2.", 15 OA INB (in) "Inverting input of op amps B", 16 OA OUTB (out) "Output of op amps B", 17 F2 (in) "Programming input for fCLK/f0 ratio", 18 F0 (in) "Programming input for fCLK/f0 ratio", 19 V- (power) "Negative supply voltage", 20 GND (power) "Analog Ground. Connect to the system ground for +/- supplies or to mid-supply for single supply operation. GND should be well bypassed in single supply applications.", 21 OSC OUT "Connects to crystal or R-C for self-clocked operation.", 22 S1B (in) "Auxiliary input to summing node in B filter. It receives feedback signals in various filter modes.", 23 F3 (in) "Programming input for fCLK/f0 ratio", 24 F1 (in) "Programming input for fCLK/f0 ratio", 25 N/HP/APB (out), 26 BPB (out) "Bandpass outputs", 27 LPB (out) "Lowpass outputs", 28 INB (in) "Filter input"

## MAX265AEWI+
designator U?
Switched Capacitor Filter, Pin Strap, Resistor Programmable, -40 to 85 degC, 28-Pin SOIC (W28+5), Pb-Free; Generic Part Number: MAX265; PartNumber: MAX265AEWI+; Filter Sections: 2; Filter Type: Universal; DatasheetVersion: Rev. 0; PackageVersion: Rev. F, 10/2012; PackageReference: W28+5; PackageDescription: 28-Pin Small-Outline IC, Wide (0.3in) (W28+5), Body 17.9 x 7.5 mm, Pitch 1.27 mm; Supplier 1: Mouser; Supplier Part Number 1: N/A; Filter Characteristic: Programmable; Filter Class: Switched Cap; Order Per Filter Section: 2; Program Method: Pin Strap, Resistor; RoHS: Pb-Free; Mounting Technology: Surface Mount; Code_JEDEC: MS013; ComponentLink1Description: Manufacturer URL; ComponentLink1URL: http://www.maximintegrated.com/; ComponentLink2Description: Datasheet; ComponentLink2URL: http://datasheets.maximintegrated.com/en/ds/MAX265-MAX266.pdf; ComponentLink3Description: Package Specification; ComponentLink3URL: http://pdfserv.maximintegrated.com/package_dwgs/21-0042.PDF
footprint MAXM-W28+5_N (SOIC, 28-Leads, Body 17.9x7.5mm, Pitch 1.27mm, IPC Medium Density)
footprint MAXM-W28+5_L (SOIC, 28-Leads, Body 17.9x7.5mm, Pitch 1.27mm, IPC High Density)
footprint MAXM-W28+5_M (SOIC, 28-Leads, Body 17.9x7.5mm, Pitch 1.27mm, IPC Low Density)
pins: 1 LPA (out) "Lowpass outputs", 2 BPA (out) "Bandpass outputs", 3 OA OUTA (out) "Output of op amps A", 4 N/HP/APA (out), 5 OA INA (in) "Inverting input of op amps A", 6 INA (in) "Filter input", 7 S1A (in) "Auxiliary input to summing node in A filter. It receives feedback signals in various filter modes.", 8 SA/B (in) "When SA/B is high, one filter summing node is tied to the LP output. When SA/B is low, the summing node is grounded. See Mode diagrams (Figures 5-20) for SA/B connections.", 9 CLK OUT "Clock Output for crystal and R-C oscillator operation.", 10 V+ (power) "Positive supply voltage", 11 F5 (in) "Programming input for fCLK/f0 ratio", 12 F4 (in) "Programming input for fCLK/f0 ratio", 13 CLKA "Input to the oscillator and clock input to section A. This clock is internally divided by 2.", 14 CLKB "Clock input to filter B. This clock is internally divided by 2.", 15 OA INB (in) "Inverting input of op amps B", 16 OA OUTB (out) "Output of op amps B", 17 F2 (in) "Programming input for fCLK/f0 ratio", 18 F0 (in) "Programming input for fCLK/f0 ratio", 19 V- (power) "Negative supply voltage", 20 GND (power) "Analog Ground. Connect to the system ground for +/- supplies or to mid-supply for single supply operation. GND should be well bypassed in single supply applications.", 21 OSC OUT "Connects to crystal or R-C for self-clocked operation.", 22 S1B (in) "Auxiliary input to summing node in B filter. It receives feedback signals in various filter modes.", 23 F3 (in) "Programming input for fCLK/f0 ratio", 24 F1 (in) "Programming input for fCLK/f0 ratio", 25 N/HP/APB (out), 26 BPB (out) "Bandpass outputs", 27 LPB (out) "Lowpass outputs", 28 INB (in) "Filter input"

## MAX265AEWI+T
designator U?
Switched Capacitor Filter, Pin Strap, Resistor Programmable, -40 to 85 degC, 28-Pin SOIC (W28+5), Pb-Free, Tape and Reel; Generic Part Number: MAX265; PartNumber: MAX265AEWI+T; Filter Sections: 2; Filter Type: Universal; DatasheetVersion: Rev. 0; PackageVersion: Rev. F, 10/2012; PackageReference: W28+5; PackageDescription: 28-Pin Small-Outline IC, Wide (0.3in) (W28+5), Body 17.9 x 7.5 mm, Pitch 1.27 mm; Supplier 1: Mouser; Supplier Part Number 1: N/A; Filter Characteristic: Programmable; Filter Class: Switched Cap; Order Per Filter Section: 2; Packing: Tape and Reel; Program Method: Pin Strap, Resistor; RoHS: Pb-Free; Mounting Technology: Surface Mount; Code_JEDEC: MS013; ComponentLink1Description: Manufacturer URL; ComponentLink1URL: http://www.maximintegrated.com/; ComponentLink2Description: Datasheet; ComponentLink2URL: http://datasheets.maximintegrated.com/en/ds/MAX265-MAX266.pdf; ComponentLink3Description: Package Specification; ComponentLink3URL: http://pdfserv.maximintegrated.com/package_dwgs/21-0042.PDF
footprint MAXM-W28+5_N (SOIC, 28-Leads, Body 17.9x7.5mm, Pitch 1.27mm, IPC Medium Density)
footprint MAXM-W28+5_L (SOIC, 28-Leads, Body 17.9x7.5mm, Pitch 1.27mm, IPC High Density)
footprint MAXM-W28+5_M (SOIC, 28-Leads, Body 17.9x7.5mm, Pitch 1.27mm, IPC Low Density)
pins: 1 LPA (out) "Lowpass outputs", 2 BPA (out) "Bandpass outputs", 3 OA OUTA (out) "Output of op amps A", 4 N/HP/APA (out), 5 OA INA (in) "Inverting input of op amps A", 6 INA (in) "Filter input", 7 S1A (in) "Auxiliary input to summing node in A filter. It receives feedback signals in various filter modes.", 8 SA/B (in) "When SA/B is high, one filter summing node is tied to the LP output. When SA/B is low, the summing node is grounded. See Mode diagrams (Figures 5-20) for SA/B connections.", 9 CLK OUT "Clock Output for crystal and R-C oscillator operation.", 10 V+ (power) "Positive supply voltage", 11 F5 (in) "Programming input for fCLK/f0 ratio", 12 F4 (in) "Programming input for fCLK/f0 ratio", 13 CLKA "Input to the oscillator and clock input to section A. This clock is internally divided by 2.", 14 CLKB "Clock input to filter B. This clock is internally divided by 2.", 15 OA INB (in) "Inverting input of op amps B", 16 OA OUTB (out) "Output of op amps B", 17 F2 (in) "Programming input for fCLK/f0 ratio", 18 F0 (in) "Programming input for fCLK/f0 ratio", 19 V- (power) "Negative supply voltage", 20 GND (power) "Analog Ground. Connect to the system ground for +/- supplies or to mid-supply for single supply operation. GND should be well bypassed in single supply applications.", 21 OSC OUT "Connects to crystal or R-C for self-clocked operation.", 22 S1B (in) "Auxiliary input to summing node in B filter. It receives feedback signals in various filter modes.", 23 F3 (in) "Programming input for fCLK/f0 ratio", 24 F1 (in) "Programming input for fCLK/f0 ratio", 25 N/HP/APB (out), 26 BPB (out) "Bandpass outputs", 27 LPB (out) "Lowpass outputs", 28 INB (in) "Filter input"